# Altium footprint library CAP-10u-0805.PcbLib: 1 footprints
Each footprint in its own frame and in the unit in brackets; x right, y up, seen from the top. Pads: shape width x height; smd on the part's side, far side on the other; paste and mask are expansions set on the pad; w line width, h text height; cw(c..) or ccw(c..) is an arc to the next point about the centre after c.
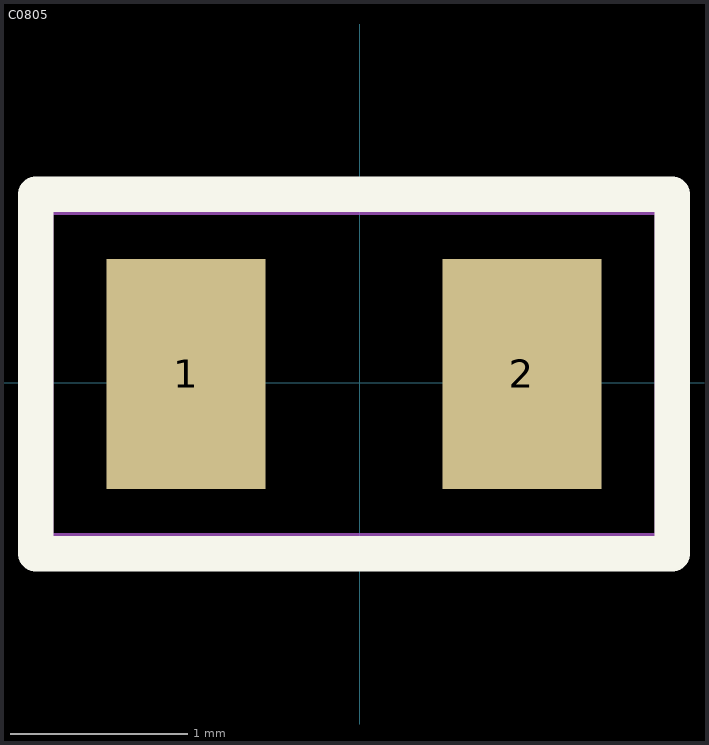
[diagram p0: the footprint, top view; thin cyan lines are the x and y axes]

## C0805 [mm]
pads (2):
  rect 0.9x1.3 smd: 1(-0.982,0.049) 2(0.918,0.049)
Top Overlay:
  lines w0.2: -1.832,-0.967 1.768,-0.967 1.768,1.065 -1.832,1.065 -1.832,-0.967
Mechanical 29:
  lines w0.2: -1.832,-0.951 -1.832,1.049 1.768,1.049 1.768,-0.951 -1.832,-0.951
  text ".Designator" at -0.75,-0.35 h0.76
3D body "CAPC2012X145N EIA 0805.step": height 1.46, standoff 0.01, extent -1.025,-0.55 0.975,0.65